# Altium footprint library DIOM4226X244N.PcbLib: 1 footprints
Each footprint in its own frame and in the unit in brackets; x right, y up, seen from the top. Pads: shape width x height; smd on the part's side, far side on the other; paste and mask are expansions set on the pad; w line width, h text height; cw(c..) or ccw(c..) is an arc to the next point about the centre after c.
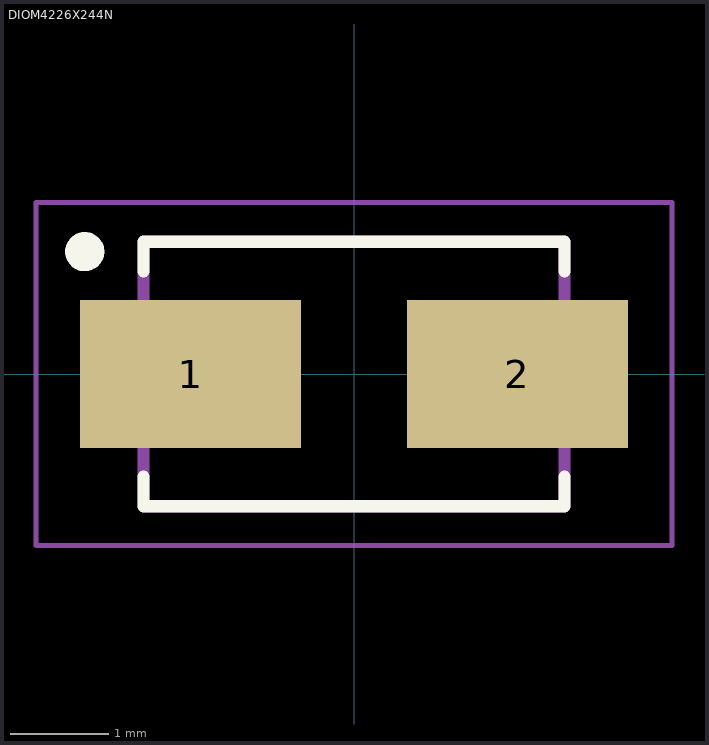
[diagram p0: the footprint, top view; thin cyan lines are the x and y axes]

## DIOM4226X244N [mm]
pads (2):
  rect 2.26x1.51 smd paste+0 mask+0.102: 1(-1.67,0) 2(1.67,0)
Top Overlay:
  circle w0.2: c-2.75,1.25 r0.1
  lines w0.127: -2.15,-1.05 -2.15,-1.35 2.15,-1.35 2.15,-1.05 ; -2.15,1.05 -2.15,1.35 2.15,1.35 2.15,1.05
Assembly Top:
  lines w0.127: -2.15,-1.35 2.15,-1.35 2.15,1.35 -2.15,1.35 -2.15,-1.35
Courtyard Top:
  lines w0.05: -3.25,-1.75 3.25,-1.75 3.25,1.75 -3.25,1.75 -3.25,-1.75
3D body "step_temp.STEP": height 2.37, standoff 0.2, extent -2.398,-1.27 2.652,1.43